# Altium schematic symbol library 24C256 SHC.SchLib: 1 symbol
Pins are listed as number, name and electrical type; pins without a type are passive.

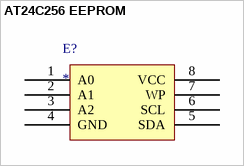
[diagram p0: symbol AT24C256 EEPROM]

## AT24C256 EEPROM
designator E?
footprint SOIC8_L (Footprint not found)
pins: 1 A0, 2 A1, 3 A2, 4 GND, 5 SDA, 6 SCL, 7 WP, 8 VCC